# EAGLE library part DAC124S085CIMM (library marionette)
DAC124S085CIMM 4 output 12bit DAC Mfg.: TI, Mfg_Part_No.:DAC124S085CIMM/NOPB, Digikey Part No.; DAC124S085CIMM/NOPBTR-ND, Pkg.: TFSOP-10, MSOP-10, VSSOP-10 Datasheet: http://www.ti.com/lit/ds/symlink/dac124s085.pdf
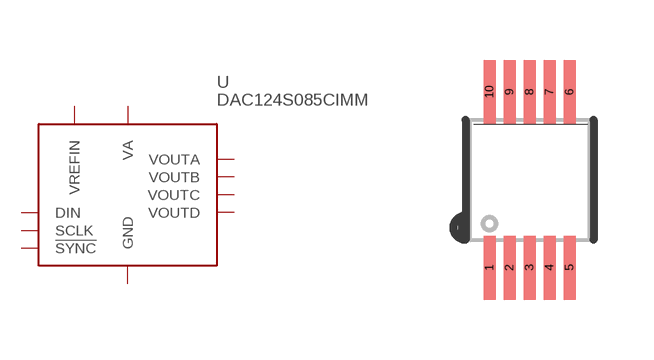
[diagram p0: symbol with the pads of 10-TFSOP; footprint 10-TFSOP]

Designator prefix U

## DAC124S085CIMM_DAC124S085CIMM  [10-TFSOP]
1  VA  pwr
2  VOUTA  out
3  VOUTB  out
4  VOUTC  out
5  VOUTD  out
6  GND  pwr
7  VREFIN  in
8  DIN  in
9  !SYNC!  in
10  SCLK  in

## Footprint 10-TFSOP (pad centres in mm)
10-MSOP - 3MM WIDTH
smd 0.3 x 1.6: 1 -1,-2.2; 2 -0.5,-2.2; 3 0,-2.2; 4 0.5,-2.2; 5 1,-2.2; 6 1,2.2; 7 0.5,2.2; 8 0,2.2; 9 -0.5,2.2; 10 -1,2.2